# EAGLE library part C8051F121 (library micro-silabs)
100MIPS, 128K Flash, 12-bit ADC, 64-Pin MCU
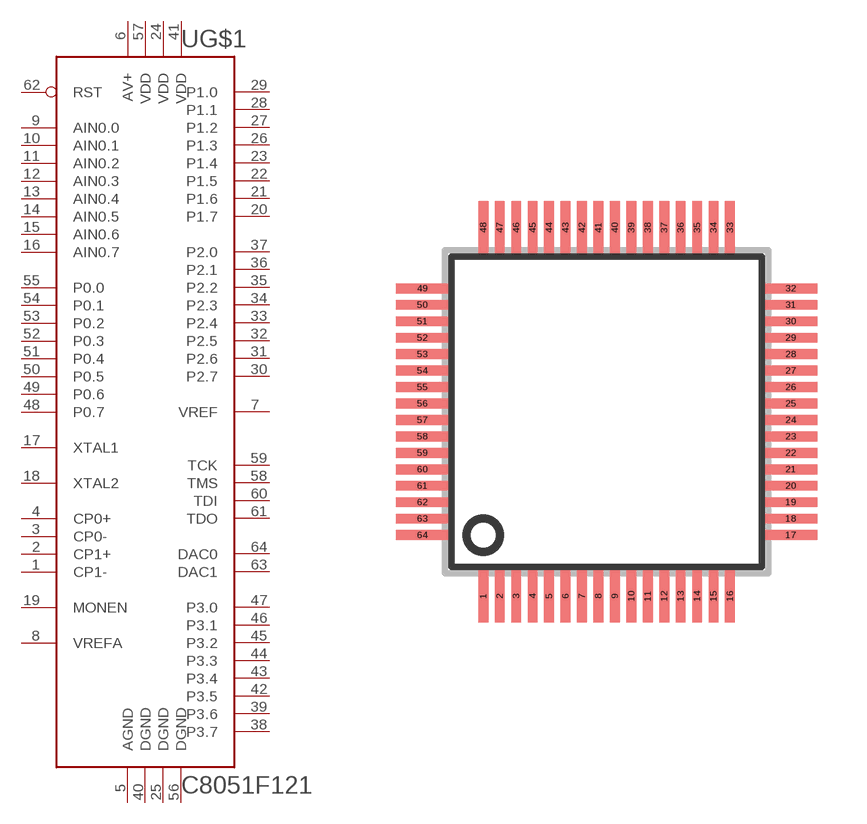
[diagram p5: symbol with the pads of TQFP64; footprint TQFP64]

Designator prefix -; gates G$1=C8051FX2X_64 G$2=VDD G$3=VDD G$4=DGND G$5=DGND

## C8051F121  [TQFP64]
1  G$1:CP1-  in
2  G$1:CP1+  in
3  G$1:CP0-  in
4  G$1:CP0+  in
5  G$1:AGND  pwr
6  G$1:AV+  pwr
7  G$1:VREF  out
8  G$1:VREFA  in
9  G$1:AIN0.0  in
10  G$1:AIN0.1  in
11  G$1:AIN0.2  in
12  G$1:AIN0.3  in
13  G$1:AIN0.4  in
14  G$1:AIN0.5  in
15  G$1:AIN0.6  in
16  G$1:AIN0.7  in
17  G$1:XTAL1  in
18  G$1:XTAL2  out
19  G$1:MONEN  in
20  G$1:P1.7
21  G$1:P1.6
22  G$1:P1.5
23  G$1:P1.4
24  G$1:VDD  pwr
25  G$1:DGND  pwr
26  G$1:P1.3
27  G$1:P1.2
28  G$1:P1.1
29  G$1:P1.0
30  G$1:P2.7
31  G$1:P2.6
32  G$1:P2.5
33  G$1:P2.4
34  G$1:P2.3
35  G$1:P2.2
36  G$1:P2.1
37  G$1:P2.0
38  G$1:P3.7
39  G$1:P3.6
40  G$4:DGND  pwr
41  G$3:VDD  pwr
42  G$1:P3.5
43  G$1:P3.4
44  G$1:P3.3
45  G$1:P3.2
46  G$1:P3.1
47  G$1:P3.0
48  G$1:P0.7
49  G$1:P0.6
50  G$1:P0.5
51  G$1:P0.4
52  G$1:P0.3
53  G$1:P0.2
54  G$1:P0.1
55  G$1:P0.0
56  G$5:DGND  pwr
57  G$2:VDD  pwr
58  G$1:TMS  in
59  G$1:TCK  in
60  G$1:TDI  in
61  G$1:TDO  out
62  G$1:RST
63  G$1:DAC1  out
64  G$1:DAC0  out

## Footprint TQFP64 (pad centres in mm)
TQFP64 Thin quad flat pack, square
smd 0.3 x 1.6: 1 -3.75,-5.6; 2 -3.25,-5.6; 3 -2.75,-5.6; 4 -2.25,-5.6; 5 -1.75,-5.6; 6 -1.25,-5.6; 7 -0.75,-5.6; 8 -0.25,-5.6; 9 0.25,-5.6; 10 0.75,-5.6; 11 1.25,-5.6; 12 1.75,-5.6; 13 2.25,-5.6; 14 2.75,-5.6; 15 3.25,-5.6; 16 3.75,-5.6; 33 3.75,5.6; 34 3.25,5.6; 35 2.75,5.6; 36 2.25,5.6; 37 1.75,5.6; 38 1.25,5.6; 39 0.75,5.6; 40 0.25,5.6; 41 -0.25,5.6; 42 -0.75,5.6; 43 -1.25,5.6; 44 -1.75,5.6; 45 -2.25,5.6; 46 -2.75,5.6; 47 -3.25,5.6; 48 -3.75,5.6
smd 1.6 x 0.3: 17 5.6,-3.75; 18 5.6,-3.25; 19 5.6,-2.75; 20 5.6,-2.25; 21 5.6,-1.75; 22 5.6,-1.25; 23 5.6,-0.75; 24 5.6,-0.25; 25 5.6,0.25; 26 5.6,0.75; 27 5.6,1.25; 28 5.6,1.75; 29 5.6,2.25; 30 5.6,2.75; 31 5.6,3.25; 32 5.6,3.75; 49 -5.6,3.75; 50 -5.6,3.25; 51 -5.6,2.75; 52 -5.6,2.25; 53 -5.6,1.75; 54 -5.6,1.25; 55 -5.6,0.75; 56 -5.6,0.25; 57 -5.6,-0.25; 58 -5.6,-0.75; 59 -5.6,-1.25; 60 -5.6,-1.75; 61 -5.6,-2.25; 62 -5.6,-2.75; 63 -5.6,-3.25; 64 -5.6,-3.75